# Altium footprint library 8-WFDFN EP _ 8-HWSON (2x3).PcbLib: 1 footprints
Each footprint in its own frame and in the unit in brackets; x right, y up, seen from the top. Pads: shape width x height; smd on the part's side, far side on the other; paste and mask are expansions set on the pad; w line width, h text height; cw(c..) or ccw(c..) is an arc to the next point about the centre after c.
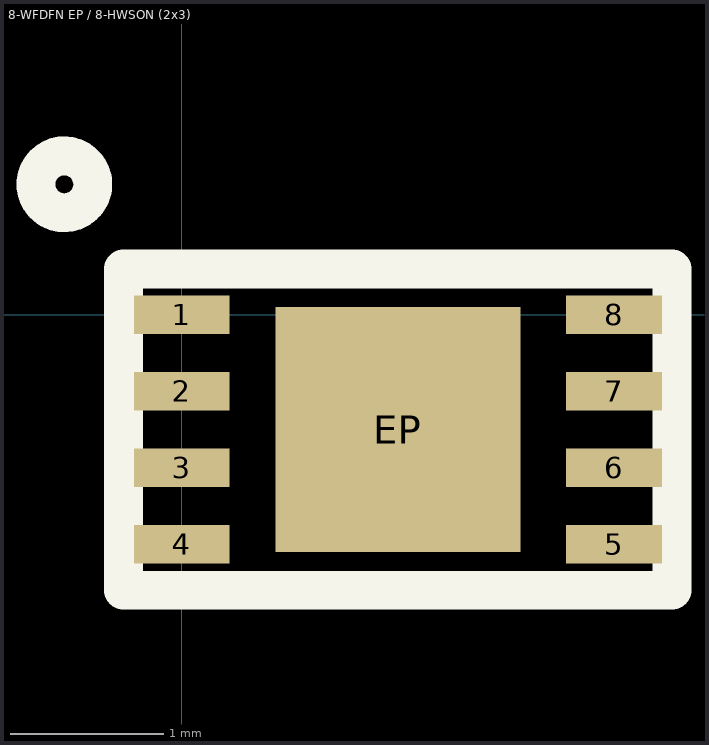
[diagram p0: the footprint, top view; thin cyan lines are the x and y axes]

## 8-WFDFN EP / 8-HWSON (2x3) [mm]
pads (9):
  rect 0.625x0.25 smd: 1(0,0) 2(0,-0.5) 3(0,-1) 4(0,-1.5) 5(2.825,-1.5) 6(2.825,-1) 7(2.825,-0.5) 8(2.825,0)
  rect 1.6x1.6 smd: EP(1.413,-0.75)
Top Overlay:
  circle w0.254: c-0.767,0.852 r0.186
  lines w0.254: 3.205,-1.8 3.205,0.3 -0.38,0.3 -0.38,-1.8 3.205,-1.8 ; 3.205,-1.8 3.205,-1.8
3D body: height 0.8, standoff 0, extent -0.38,-1.8 3.205,0.3